# EAGLE library part SN74HC164 (library lightmeter)
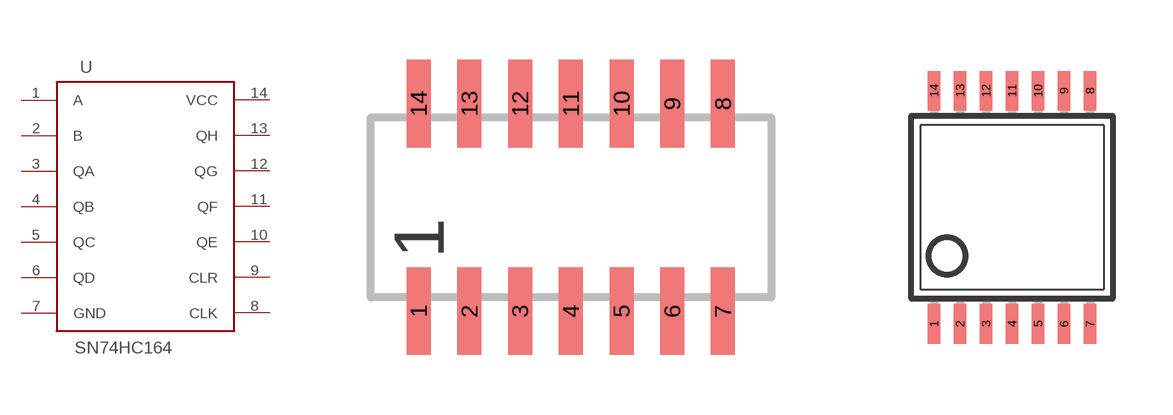
[diagram p1: symbol with the pads of SOP-14; footprints SOP-14, TSSOP14]

Designator prefix -

## SN74HC164  [SOP-14]
1  A
2  B
3  QA
4  QB
5  QC
6  QD
7  GND
8  CLK
9  CLR
10  QE
11  QF
12  QG
13  QH
14  VCC

## SN74HC164TSSOP-14  [TSSOP14]
Pads as for SOP-14

## Footprint SOP-14 (pad centres in mm)
smd 0.6 x 2.2: 1 -5.08,-1.33; 2 -3.81,-1.33; 3 -2.54,-1.33; 4 -1.27,-1.33; 5 0,-1.33; 6 1.27,-1.33; 7 2.54,-1.33; 8 2.54,3.87; 9 1.27,3.87; 10 0,3.87; 11 -1.27,3.87; 12 -2.54,3.87; 13 -3.81,3.87; 14 -5.08,3.87

## Footprint TSSOP14 (pad centres in mm)
Thin Shrink Small Outline Plastic 14 MAX3223-MAX3243.pdf
smd 0.305 x 0.991: 1 -1.95,-2.918; 2 -1.3,-2.918; 3 -0.65,-2.918; 4 0,-2.918; 5 0.65,-2.918; 6 1.3,-2.918; 7 1.95,-2.918; 8 1.95,2.918; 9 1.3,2.918; 10 0.65,2.918; 11 0,2.918; 12 -0.65,2.918; 13 -1.3,2.918; 14 -1.95,2.918